# EAGLE library part GF-CHG-SOCKET-V2 (library greg)
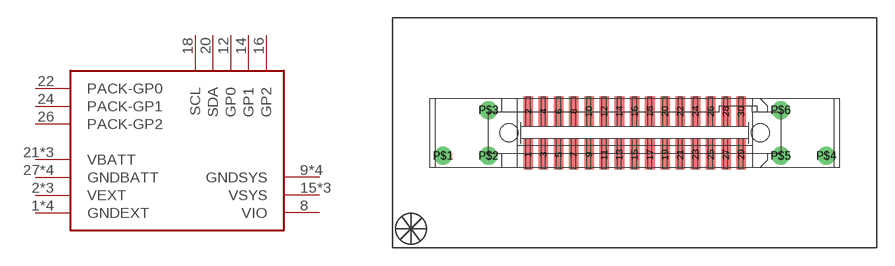
[diagram p27: symbol with the pads of GF-CHARGER-V2; footprint GF-CHARGER-V2]

Designator prefix J

## GF-CHG-SOCKET-V2  [GF-CHARGER-V2]
1  GNDEXT  sup
2  VEXT  sup
3  GNDEXT  sup
4  VEXT  sup
5  GNDEXT  sup
6  VEXT  sup
7  GNDEXT  sup
8  VIO  sup
9  GNDSYS  sup
10  GNDSYS  sup
11  GNDSYS  sup
12  GP0
13  GNDSYS  sup
14  GP1
15  VSYS  sup
16  GP2
17  VSYS  sup
18  SCL
19  VSYS  sup
20  SDA
21  VBATT  sup
22  PACK-GP0
23  VBATT  sup
24  PACK-GP1
25  VBATT  sup
26  PACK-GP2  sup
27  GNDBATT  sup
28  GNDBATT  sup
29  GNDBATT  sup
30  GNDBATT  sup

## Footprint GF-CHARGER-V2 (pad centres in mm)
smd 0.8 x 2.5: 1 -8.89,-1.8; 2 -8.89,1.8; 3 -7.62,-1.8; 4 -7.62,1.8; 5 -6.35,-1.8; 6 -6.35,1.8; 7 -5.08,-1.8; 8 -5.08,1.8; 9 -3.81,-1.8; 10 -3.81,1.8; 11 -2.54,-1.8; 12 -2.54,1.8; 13 -1.27,-1.8; 14 -1.27,1.8; 15 0,-1.8; 16 0,1.8; 17 1.27,-1.8; 18 1.27,1.8; 19 2.54,-1.8; 20 2.54,1.8; 21 3.81,-1.8; 22 3.81,1.8; 23 5.08,-1.8; 24 5.08,1.8; 25 6.35,-1.8; 26 6.35,1.8; 27 7.62,-1.8; 28 7.62,1.8; 29 8.89,-1.8; 30 8.89,1.8
drill 1: P$1 -16.002,-1.905; P$2 -12.192,-1.905; P$3 -12.192,1.905; P$4 16.002,-1.905; P$5 12.192,-1.905; P$6 12.192,1.905
hole 1.5 at 10.477,0
hole 1.5 at -10.477,0